# EAGLE library part TLE493DW2B6 (library TLE493DW2B6)
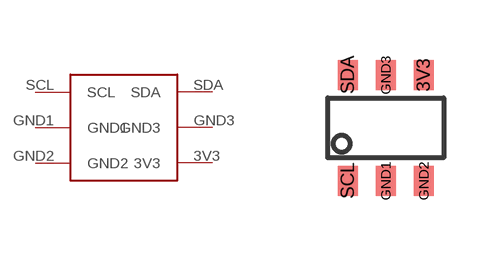
[diagram p0: symbol with the pads of TLE493DW2B6; footprint TLE493DW2B6]

Designator prefix -

## TLE493DW2B6  [TLE493DW2B6]
3V3  3V3
GND1  GND1
GND2  GND2
GND3  GND3
SCL  SCL
SDA  SDA

## Footprint TLE493DW2B6 (pad centres in mm)
smd 0.5 x 0.75: 3V3 0.95,1.325; GND1 0,-1.325; GND2 0.95,-1.325; GND3 0,1.325; SCL -0.95,-1.325; SDA -0.95,1.325